# Altium schematic symbol library 稳压模块.SchLib: 1 symbol
Pins are listed as number, name and electrical type; pins without a type are passive.

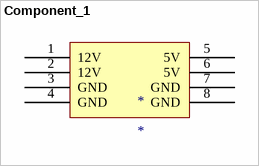
[diagram p0: symbol Component_1]

## Component_1
designator *
footprint 12-5V电源模块; pin to pad 1>3 2>3 3>4 5>2 6>2 7>1 8>1
pins: 1 12V, 2 12V, 3 GND, 4 GND, 5 5V, 6 5V, 7 GND, 8 GND